# Altium footprint library PCB - CONNECTOR - SAMTEC IPL1-110-01-L-D-K.PCBLIB: 1 footprints
Each footprint in its own frame and in the unit in brackets; x right, y up, seen from the top. Pads: shape width x height; smd on the part's side, far side on the other; paste and mask are expansions set on the pad; w line width, h text height; cw(c..) or ccw(c..) is an arc to the next point about the centre after c.
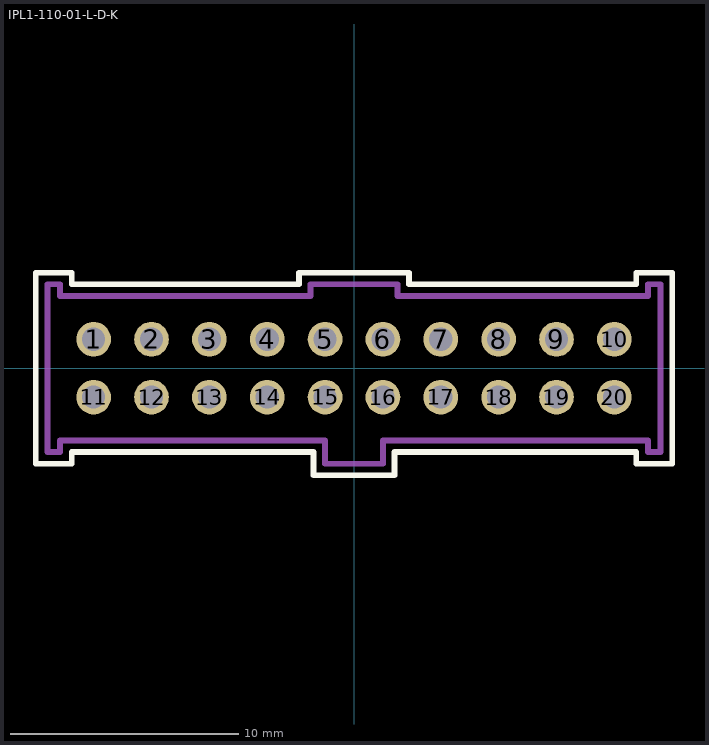
[diagram p0: the footprint, top view; thin cyan lines are the x and y axes]

## IPL1-110-01-L-D-K [mil]
pads (20):
  round 60 hole 40 mask+3: 1(-450,50) 2(-350,50) 3(-250,50) 4(-150,50) 5(-50,50) 6(50,50) 7(150,50) 8(250,50) 9(350,50) 10(450,50) 11(-450,-50) 12(-350,-50) 13(-250,-50) 14(-150,-50) 15(-50,-50) 16(50,-50) 17(150,-50) 18(250,-50) 19(350,-50) 20(450,-50)
Top Overlay:
  lines w10: -550,-165 -488,-165 -488,-145 -70,-145 -70,-185 70,-185 70,-145 488,-145 488,-165 550,-165 550,165 488,165 488,145 95,145 95,165 -95,165 -95,145 -488,145 -488,165 -550,165 -550,-165
M5 Assembly Top:
  lines w10: -530,-145 -508,-145 -508,-125 -50,-125 -50,-165 50,-165 50,-125 508,-125 508,-145 530,-145 530,145 508,145 508,125 75,125 75,145 -75,145 -75,125 -508,125 -508,145 -530,145 -530,-145
  text ".Designator" at -78.74,-39.37 h60
3D body "IPL1-110-01-L-D-K.stp": height 320, standoff -120, extent -530,-165 530,145